# Altium schematic symbol library CN-1.Schlib: 1 symbol
Pins are listed as number, name and electrical type; pins without a type are passive.

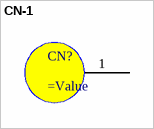
[diagram p0: symbol CN-1]

## CN-1
designator CN?
=Description
pins: 1